# EAGLE library part IC4066 (library chuong)
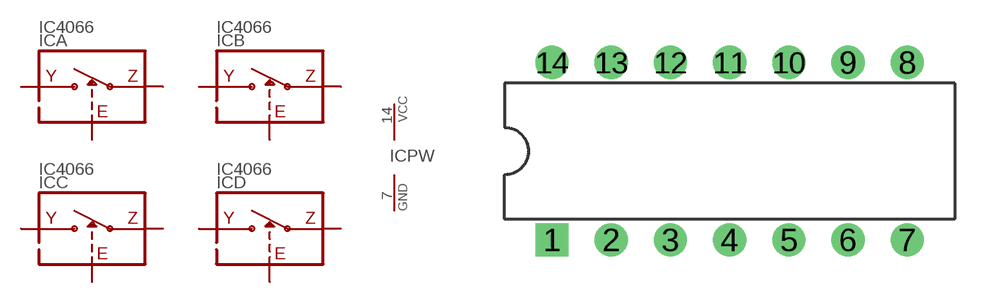
[diagram p29: symbol with the pads of DIL-14; footprint DIL-14]

Designator prefix IC; gates A=IC4066 B=IC4066 C=IC4066 D=IC4066 PW=POWER

## IC4066  [DIL-14]
1  A:Y
2  A:Z
3  B:Z
4  B:Y
5  B:E
6  C:E
7  PW:GND  pwr
8  C:Y
9  C:Z
10  D:Z
11  D:Y
12  D:E
13  A:E
14  PW:VCC  pwr

## Footprint DIL-14 (pad centres in mm)
drill 0.61 pad 1.422 square: 1 -7.62,-3.81
drill 0.61 pad 1.422 round: 2 -5.08,-3.81; 3 -2.54,-3.81; 4 0,-3.81; 5 2.54,-3.81; 6 5.08,-3.81; 7 7.62,-3.81; 8 7.62,3.81; 9 5.08,3.81; 10 2.54,3.81; 11 0,3.81; 12 -2.54,3.81; 13 -5.08,3.81; 14 -7.62,3.81